# Altium schematic symbol library Detectors.SchLib: 109 symbols (part 2 of 5)
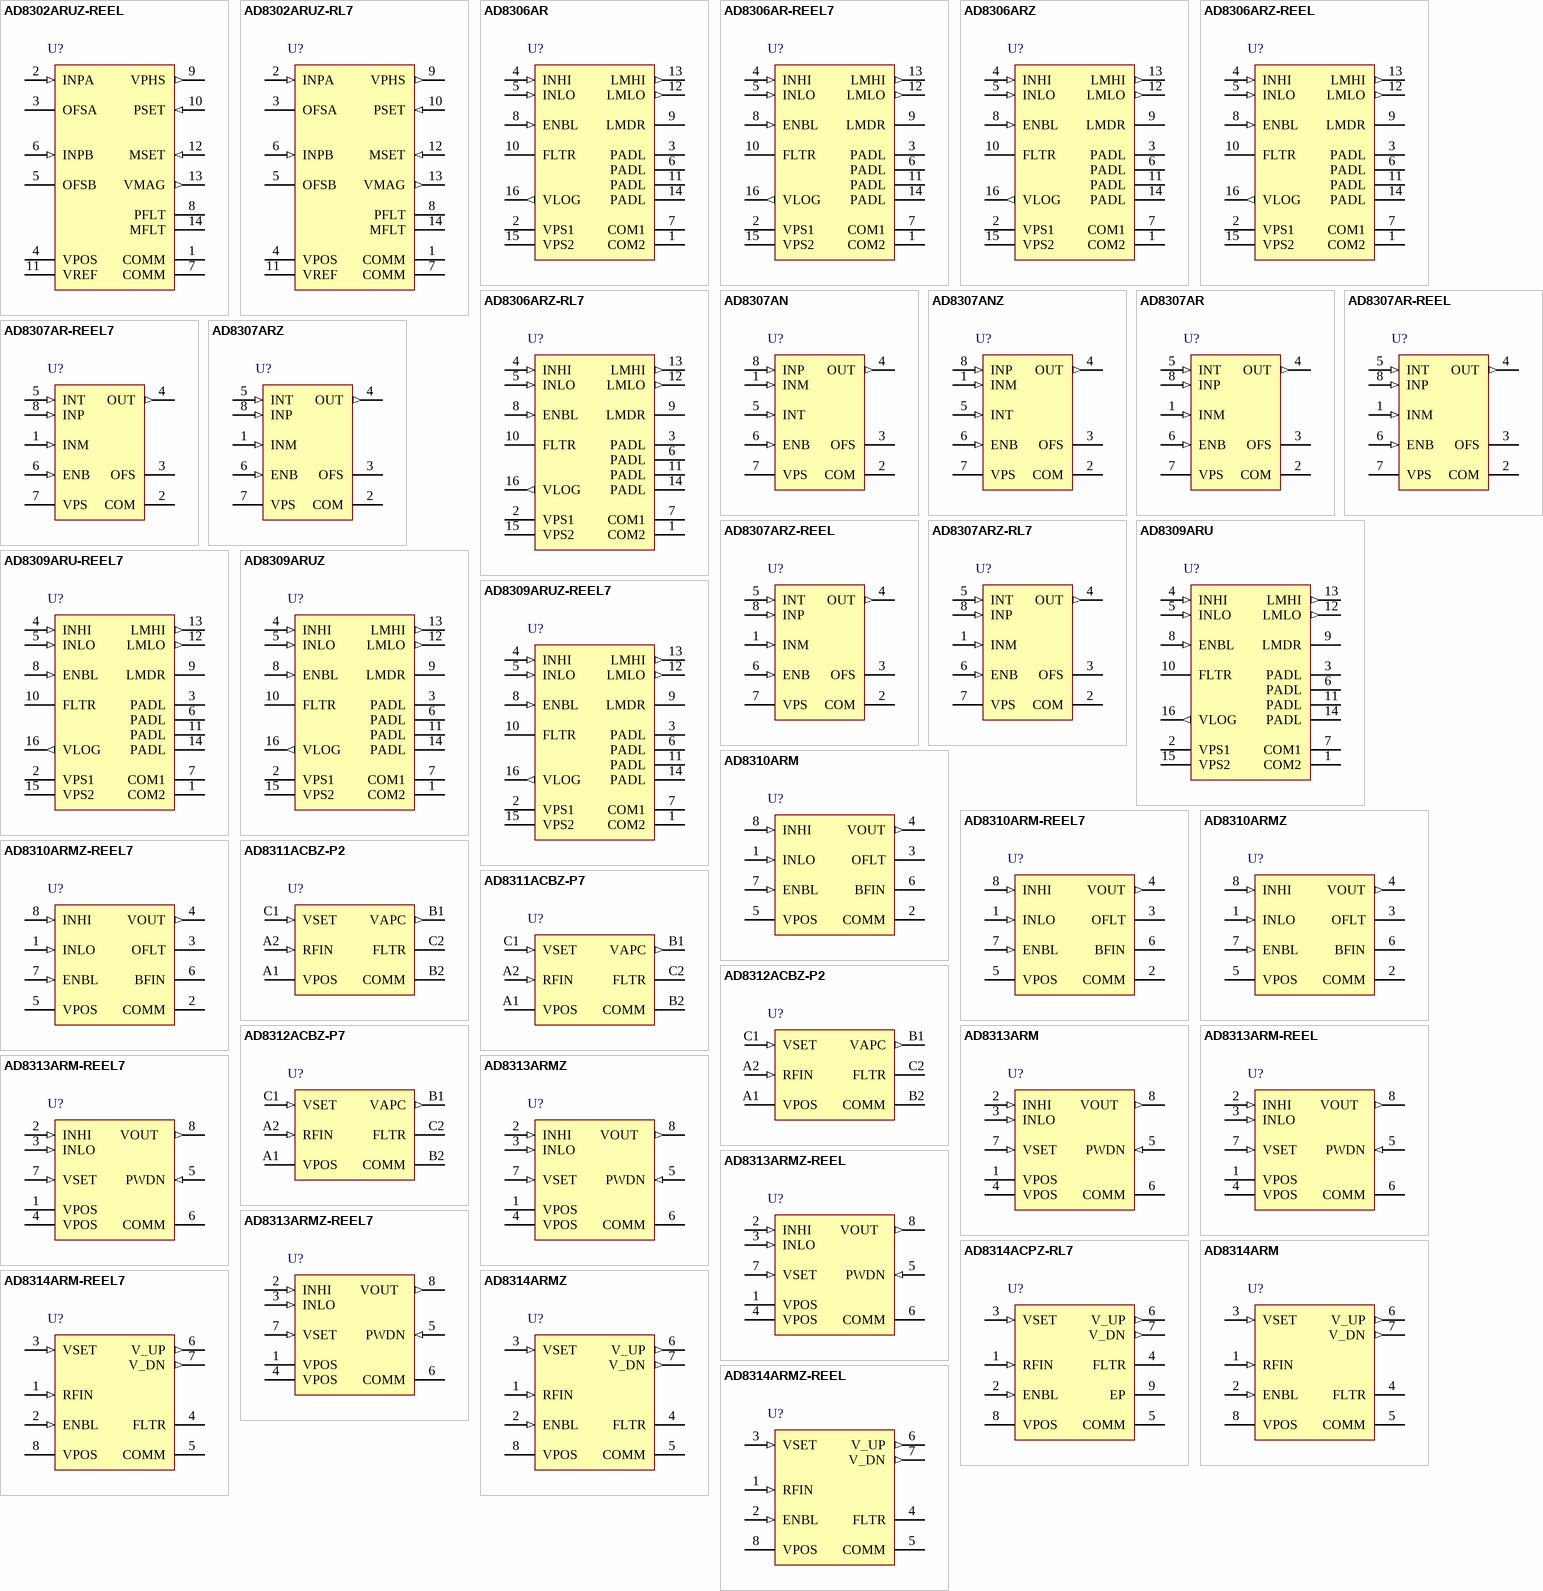
[diagram p4: symbols AD8302ARUZ-REEL to AD8314ARMZ-REEL]

## AD8306AR-REEL7
designator U?
5 MHz-400 MHz 100 dB High Precision Limiting-Logarithmic Amplifier, 73ns Response Time, R-16, 1000 Reel; Product Description: Military Specified Part Available; RF Frequency (MHz): 5 to 400; Dynamic Range (dB): 100dB; Temp Stability (dB): 1dB; Voltage Supply (V): 2.7 to 5.5; Supply Current: 16mA; DatasheetVersion: Rev.A; PackageVersion: 060606-A; PackageReference: R-16; PackageDescription: 16-Lead Standard Small Outline Package [SOIC_N]; Response Time (ns typ): 73ns; Code_JEDEC: MS-012-AC; ComponentLink1Description: Manufacturer URL; ComponentLink1URL: www.analog.com; ComponentLink2Description: Datasheet; ComponentLink2URL: http://www.analog.com/static/imported-files/data_sheets/AD8306.pdf; ComponentLink3Description: Package Specification; ComponentLink3URL: http://www.analog.com/static/imported-files/packages/PKG_PDF/SOIC_Narrow%20(R)/R_16.pdf
footprint ADI-R-16_N (SOIC, 16-Leads, Body 9.9x3.9mm, Pitch 1.27mm, IPC Medium Density)
footprint ADI-R-16_L (SOIC, 16-Leads, Body 9.9x3.9mm, Pitch 1.27mm, IPC High Density)
footprint ADI-R-16_M (SOIC, 16-Leads, Body 9.9x3.9mm, Pitch 1.27mm, IPC Low Density)
pins: 1 COM2 (power) "Special Common Pin for RSSI Output.", 2 VPS1 (power) "Supply Pin for First Five Amplifier Stages and the Main Biasing System.", 3 PADL (power) "Four Tie-Downs to the Paddle on which the IC Is Mounted; Grounded.", 4 INHI (in) "Signal Input, HI or Plus Polarity.", 5 INLO (in) "Signal Input, LO or Minus Polarity.", 6 PADL (power) "Four Tie-Downs to the Paddle on which the IC Is Mounted; Grounded.", 7 COM1 (power) "Main Common Connection.", 8 ENBL (in) "Chip Enable; Active When HI.", 9 LMDR "Limiter Drive Programming Pin.10 FLTR", 10 FLTR "RSSI Bandwidth-Reduction Pin.", 11 PADL (power) "Four Tie-Downs to the Paddle on which the IC Is Mounted; Grounded.", 12 LMLO (out) "Limiter Output, LO or Minus Polarity.", 13 LMHI (out) "Limiter Output, HI or Plus Polarity.", 14 PADL (power) "Four Tie-Downs to the Paddle on which the IC Is Mounted; Grounded.", 15 VPS2 (power) "Supply Pin for Sixth Gain Stage, Limiterand RSSI Output Stage Load Current.", 16 VLOG (out) "Logarithmic (RSSI) Output."

## AD8306ARZ
designator U?
5 MHz-400 MHz 100 dB High Precision Limiting-Logarithmic Amplifier, 73ns Response Time, R-16, Pb-Free, 48 Tube; Product Description: Military Specified Part Available; RF Frequency (MHz): 5 to 400; Dynamic Range (dB): 100dB; Temp Stability (dB): 1dB; Voltage Supply (V): 2.7 to 5.5; Supply Current: 16mA; DatasheetVersion: Rev.A; PackageVersion: 060606-A; PackageReference: R-16; PackageDescription: 16-Lead Standard Small Outline Package [SOIC_N]; Response Time (ns typ): 73ns; Code_JEDEC: MS-012-AC; ComponentLink1Description: Manufacturer URL; ComponentLink1URL: www.analog.com; ComponentLink2Description: Datasheet; ComponentLink2URL: http://www.analog.com/static/imported-files/data_sheets/AD8306.pdf; ComponentLink3Description: Package Specification; ComponentLink3URL: http://www.analog.com/static/imported-files/packages/PKG_PDF/SOIC_Narrow%20(R)/R_16.pdf
footprint ADI-R-16_N (SOIC, 16-Leads, Body 9.9x3.9mm, Pitch 1.27mm, IPC Medium Density)
footprint ADI-R-16_L (SOIC, 16-Leads, Body 9.9x3.9mm, Pitch 1.27mm, IPC High Density)
footprint ADI-R-16_M (SOIC, 16-Leads, Body 9.9x3.9mm, Pitch 1.27mm, IPC Low Density)
pins: 1 COM2 (power) "Special Common Pin for RSSI Output.", 2 VPS1 (power) "Supply Pin for First Five Amplifier Stages and the Main Biasing System.", 3 PADL (power) "Four Tie-Downs to the Paddle on which the IC Is Mounted; Grounded.", 4 INHI (in) "Signal Input, HI or Plus Polarity.", 5 INLO (in) "Signal Input, LO or Minus Polarity.", 6 PADL (power) "Four Tie-Downs to the Paddle on which the IC Is Mounted; Grounded.", 7 COM1 (power) "Main Common Connection.", 8 ENBL (in) "Chip Enable; Active When HI.", 9 LMDR "Limiter Drive Programming Pin.10 FLTR", 10 FLTR "RSSI Bandwidth-Reduction Pin.", 11 PADL (power) "Four Tie-Downs to the Paddle on which the IC Is Mounted; Grounded.", 12 LMLO (out) "Limiter Output, LO or Minus Polarity.", 13 LMHI (out) "Limiter Output, HI or Plus Polarity.", 14 PADL (power) "Four Tie-Downs to the Paddle on which the IC Is Mounted; Grounded.", 15 VPS2 (power) "Supply Pin for Sixth Gain Stage, Limiterand RSSI Output Stage Load Current.", 16 VLOG (out) "Logarithmic (RSSI) Output."

## AD8306ARZ-REEL
designator U?
5 MHz-400 MHz 100 dB High Precision Limiting-Logarithmic Amplifier, 73ns Response Time, R-16, Pb-Free, 2500 Reel; Product Description: Military Specified Part Available; RF Frequency (MHz): 5 to 400; Dynamic Range (dB): 100dB; Temp Stability (dB): 1dB; Voltage Supply (V): 2.7 to 5.5; Supply Current: 16mA; DatasheetVersion: Rev.A; PackageVersion: 060606-A; PackageReference: R-16; PackageDescription: 16-Lead Standard Small Outline Package [SOIC_N]; Response Time (ns typ): 73ns; Code_JEDEC: MS-012-AC; ComponentLink1Description: Manufacturer URL; ComponentLink1URL: www.analog.com; ComponentLink2Description: Datasheet; ComponentLink2URL: http://www.analog.com/static/imported-files/data_sheets/AD8306.pdf; ComponentLink3Description: Package Specification; ComponentLink3URL: http://www.analog.com/static/imported-files/packages/PKG_PDF/SOIC_Narrow%20(R)/R_16.pdf
footprint ADI-R-16_N (SOIC, 16-Leads, Body 9.9x3.9mm, Pitch 1.27mm, IPC Medium Density)
footprint ADI-R-16_L (SOIC, 16-Leads, Body 9.9x3.9mm, Pitch 1.27mm, IPC High Density)
footprint ADI-R-16_M (SOIC, 16-Leads, Body 9.9x3.9mm, Pitch 1.27mm, IPC Low Density)
pins: 1 COM2 (power) "Special Common Pin for RSSI Output.", 2 VPS1 (power) "Supply Pin for First Five Amplifier Stages and the Main Biasing System.", 3 PADL (power) "Four Tie-Downs to the Paddle on which the IC Is Mounted; Grounded.", 4 INHI (in) "Signal Input, HI or Plus Polarity.", 5 INLO (in) "Signal Input, LO or Minus Polarity.", 6 PADL (power) "Four Tie-Downs to the Paddle on which the IC Is Mounted; Grounded.", 7 COM1 (power) "Main Common Connection.", 8 ENBL (in) "Chip Enable; Active When HI.", 9 LMDR "Limiter Drive Programming Pin.10 FLTR", 10 FLTR "RSSI Bandwidth-Reduction Pin.", 11 PADL (power) "Four Tie-Downs to the Paddle on which the IC Is Mounted; Grounded.", 12 LMLO (out) "Limiter Output, LO or Minus Polarity.", 13 LMHI (out) "Limiter Output, HI or Plus Polarity.", 14 PADL (power) "Four Tie-Downs to the Paddle on which the IC Is Mounted; Grounded.", 15 VPS2 (power) "Supply Pin for Sixth Gain Stage, Limiterand RSSI Output Stage Load Current.", 16 VLOG (out) "Logarithmic (RSSI) Output."

## AD8306ARZ-RL7
designator U?
5 MHz-400 MHz 100 dB High Precision Limiting-Logarithmic Amplifier, 73ns Response Time, R-16, Pb-Free, 1000 Reel; Product Description: Military Specified Part Available; RF Frequency (MHz): 5 to 400; Dynamic Range (dB): 100dB; Temp Stability (dB): 1dB; Voltage Supply (V): 2.7 to 5.5; Supply Current: 16mA; DatasheetVersion: Rev.A; PackageVersion: 060606-A; PackageReference: R-16; PackageDescription: 16-Lead Standard Small Outline Package [SOIC_N]; Response Time (ns typ): 73ns; Code_JEDEC: MS-012-AC; ComponentLink1Description: Manufacturer URL; ComponentLink1URL: www.analog.com; ComponentLink2Description: Datasheet; ComponentLink2URL: http://www.analog.com/static/imported-files/data_sheets/AD8306.pdf; ComponentLink3Description: Package Specification; ComponentLink3URL: http://www.analog.com/static/imported-files/packages/PKG_PDF/SOIC_Narrow%20(R)/R_16.pdf
footprint ADI-R-16_N (SOIC, 16-Leads, Body 9.9x3.9mm, Pitch 1.27mm, IPC Medium Density)
footprint ADI-R-16_L (SOIC, 16-Leads, Body 9.9x3.9mm, Pitch 1.27mm, IPC High Density)
footprint ADI-R-16_M (SOIC, 16-Leads, Body 9.9x3.9mm, Pitch 1.27mm, IPC Low Density)
pins: 1 COM2 (power) "Special Common Pin for RSSI Output.", 2 VPS1 (power) "Supply Pin for First Five Amplifier Stages and the Main Biasing System.", 3 PADL (power) "Four Tie-Downs to the Paddle on which the IC Is Mounted; Grounded.", 4 INHI (in) "Signal Input, HI or Plus Polarity.", 5 INLO (in) "Signal Input, LO or Minus Polarity.", 6 PADL (power) "Four Tie-Downs to the Paddle on which the IC Is Mounted; Grounded.", 7 COM1 (power) "Main Common Connection.", 8 ENBL (in) "Chip Enable; Active When HI.", 9 LMDR "Limiter Drive Programming Pin.10 FLTR", 10 FLTR "RSSI Bandwidth-Reduction Pin.", 11 PADL (power) "Four Tie-Downs to the Paddle on which the IC Is Mounted; Grounded.", 12 LMLO (out) "Limiter Output, LO or Minus Polarity.", 13 LMHI (out) "Limiter Output, HI or Plus Polarity.", 14 PADL (power) "Four Tie-Downs to the Paddle on which the IC Is Mounted; Grounded.", 15 VPS2 (power) "Supply Pin for Sixth Gain Stage, Limiterand RSSI Output Stage Load Current.", 16 VLOG (out) "Logarithmic (RSSI) Output."

## AD8307AN
designator U?
Low Cost, DC to 500 MHz, 92 dB Logarithmic Amplifier, 400ns Response Time, N-8, 50 Tube; Product Description: High Dynamic Range; Dynamic Range (dB): 92dB; Temp Stability (dB): 1dB; Voltage Supply (V): 2.7 to 5.5; Supply Current: 8mA; DatasheetVersion: Rev. D; PackageVersion: 070606-A; PackageReference: N-8; PackageDescription: 8-Lead Plastic Dual In-Line Package [PDIP]; RF Frequency (MHz): dc to 500; Response Time (ns typ): 400ns; Code_JEDEC: MS-001; ComponentLink1Description: Manufacturer URL; ComponentLink1URL: www.analog.com; ComponentLink2Description: Datasheet; ComponentLink2URL: http://www.analog.com/static/imported-files/data_sheets/AD8307.pdf; ComponentLink3Description: Package Specification; ComponentLink3URL: http://www.analog.com/static/imported-files/packages/PKG_PDF/PDIP(N)/N_8.pdf
footprint ADI-N-8 (DIP, 8-Leads, Row Spacing 7.62mm, Pitch 2.54mm, Body 9.6x6.6mm)
pins: 1 INM (in) "Signal Input Minus Polarity. Normally at VPOS/2.", 2 COM (power) "Common Pin (Usually Grounded).", 3 OFS "Offset Adjustment. External capacitor connection.", 4 OUT (out) "Logarithmic (RSSI) Output Voltage. ROUT = 12.5 kohm.", 5 INT (in) "Intercept Adjustment, ±3 dB. (See the Slope and Intercept Adjustments section.)", 6 ENB (in) "CMOS-Compatible Chip Enable. Active when high.", 7 VPS (power) "Positive Supply: 2.7 V to 5.5 V.", 8 INP (in) "Signal Input Plus Polarity. Normally at VPOS/2. Due to the symmetrical nature of the response, there is no special  significance to the sign of the two input pins. DC resistance from INP to INM = 1.1 kohm."

## AD8307ANZ
designator U?
Low Cost, DC to 500 MHz, 92 dB Logarithmic Amplifier, 400ns Response Time, N-8, Pb-Free, 50 Tube; Product Description: High Dynamic Range; Dynamic Range (dB): 92dB; Temp Stability (dB): 1dB; Voltage Supply (V): 2.7 to 5.5; Supply Current: 8mA; DatasheetVersion: Rev. D; PackageVersion: 070606-A; PackageReference: N-8; PackageDescription: 8-Lead Plastic Dual In-Line Package [PDIP]; RF Frequency (MHz): dc to 500; Response Time (ns typ): 400ns; Code_JEDEC: MS-001; ComponentLink1Description: Manufacturer URL; ComponentLink1URL: www.analog.com; ComponentLink2Description: Datasheet; ComponentLink2URL: http://www.analog.com/static/imported-files/data_sheets/AD8307.pdf; ComponentLink3Description: Package Specification; ComponentLink3URL: http://www.analog.com/static/imported-files/packages/PKG_PDF/PDIP(N)/N_8.pdf
footprint ADI-N-8 (DIP, 8-Leads, Row Spacing 7.62mm, Pitch 2.54mm, Body 9.6x6.6mm)
pins: 1 INM (in) "Signal Input Minus Polarity. Normally at VPOS/2.", 2 COM (power) "Common Pin (Usually Grounded).", 3 OFS "Offset Adjustment. External capacitor connection.", 4 OUT (out) "Logarithmic (RSSI) Output Voltage. ROUT = 12.5 kohm.", 5 INT (in) "Intercept Adjustment, ±3 dB. (See the Slope and Intercept Adjustments section.)", 6 ENB (in) "CMOS-Compatible Chip Enable. Active when high.", 7 VPS (power) "Positive Supply: 2.7 V to 5.5 V.", 8 INP (in) "Signal Input Plus Polarity. Normally at VPOS/2. Due to the symmetrical nature of the response, there is no special  significance to the sign of the two input pins. DC resistance from INP to INM = 1.1 kohm."

## AD8307AR
designator U?
Low Cost, DC to 500 MHz, 92 dB Logarithmic Amplifier, 400ns Response Time, R-8, 98 Tube; Product Description: High Dynamic Range; Dynamic Range (dB): 92dB; Temp Stability (dB): 1dB; Voltage Supply (V): 2.7 to 5.5; Supply Current: 8mA; DatasheetVersion: Rev. D; PackageVersion: 060506-A; PackageReference: R-8; PackageDescription: 8-Lead Standard Small Outline Package [SOIC_N]; RF Frequency (MHz): dc to 500; Response Time (ns typ): 400ns; Code_JEDEC: MS-012-AA; ComponentLink1Description: Manufacturer URL; ComponentLink1URL: www.analog.com; ComponentLink2Description: Datasheet; ComponentLink2URL: http://www.analog.com/static/imported-files/data_sheets/AD8307.pdf; ComponentLink3Description: Package Specification; ComponentLink3URL: http://www.analog.com/static/imported-files/packages/PKG_PDF/SOIC_Narrow%20(R)/R_8.pdf
footprint ADI-R-8_N (SOIC, 8-Leads, Body 4.9x3.9mm, Pitch 1.27mm, IPC Medium Density)
footprint ADI-R-8_L (SOIC, 8-Leads, Body 4.9x3.9mm, Pitch 1.27mm, IPC High Density)
footprint ADI-R-8_M (SOIC, 8-Leads, Body 4.9x3.9mm, Pitch 1.27mm, IPC Low Density)
pins: 1 INM (in) "Signal Input Minus Polarity. Normally at VPOS/2.", 2 COM (power) "Common Pin (Usually Grounded).", 3 OFS "Offset Adjustment. External capacitor connection.", 4 OUT (out) "Logarithmic (RSSI) Output Voltage. ROUT = 12.5 kohm.", 5 INT (in) "Intercept Adjustment, ±3 dB. (See the Slope and Intercept Adjustments section.)", 6 ENB (in) "CMOS-Compatible Chip Enable. Active when high.", 7 VPS (power) "Positive Supply: 2.7 V to 5.5 V.", 8 INP (in) "Signal Input Plus Polarity. Normally at VPOS/2. Due to the symmetrical nature of the response, there is no special significance to the sign of the two input pins. DC resistance from INP to INM = 1.1 kohm."

## AD8307AR-REEL
designator U?
Low Cost, DC to 500 MHz, 92 dB Logarithmic Amplifier, 400ns Response Time, R-8, 2500 Reel; Product Description: High Dynamic Range; Dynamic Range (dB): 92dB; Temp Stability (dB): 1dB; Voltage Supply (V): 2.7 to 5.5; Supply Current: 8mA; DatasheetVersion: Rev. D; PackageVersion: 060506-A; PackageReference: R-8; PackageDescription: 8-Lead Standard Small Outline Package [SOIC_N]; RF Frequency (MHz): dc to 500; Response Time (ns typ): 400ns; Code_JEDEC: MS-012-AA; ComponentLink1Description: Manufacturer URL; ComponentLink1URL: www.analog.com; ComponentLink2Description: Datasheet; ComponentLink2URL: http://www.analog.com/static/imported-files/data_sheets/AD8307.pdf; ComponentLink3Description: Package Specification; ComponentLink3URL: http://www.analog.com/static/imported-files/packages/PKG_PDF/SOIC_Narrow%20(R)/R_8.pdf
footprint ADI-R-8_N (SOIC, 8-Leads, Body 4.9x3.9mm, Pitch 1.27mm, IPC Medium Density)
footprint ADI-R-8_L (SOIC, 8-Leads, Body 4.9x3.9mm, Pitch 1.27mm, IPC High Density)
footprint ADI-R-8_M (SOIC, 8-Leads, Body 4.9x3.9mm, Pitch 1.27mm, IPC Low Density)
pins: 1 INM (in) "Signal Input Minus Polarity. Normally at VPOS/2.", 2 COM (power) "Common Pin (Usually Grounded).", 3 OFS "Offset Adjustment. External capacitor connection.", 4 OUT (out) "Logarithmic (RSSI) Output Voltage. ROUT = 12.5 kohm.", 5 INT (in) "Intercept Adjustment, ±3 dB. (See the Slope and Intercept Adjustments section.)", 6 ENB (in) "CMOS-Compatible Chip Enable. Active when high.", 7 VPS (power) "Positive Supply: 2.7 V to 5.5 V.", 8 INP (in) "Signal Input Plus Polarity. Normally at VPOS/2. Due to the symmetrical nature of the response, there is no special significance to the sign of the two input pins. DC resistance from INP to INM = 1.1 kohm."

## AD8307AR-REEL7
designator U?
Low Cost, DC to 500 MHz, 92 dB Logarithmic Amplifier, 400ns Response Time, R-8, 750 Reel; Product Description: High Dynamic Range; Dynamic Range (dB): 92dB; Temp Stability (dB): 1dB; Voltage Supply (V): 2.7 to 5.5; Supply Current: 8mA; DatasheetVersion: Rev. D; PackageVersion: 060506-A; PackageReference: R-8; PackageDescription: 8-Lead Standard Small Outline Package [SOIC_N]; RF Frequency (MHz): dc to 500; Response Time (ns typ): 400ns; Code_JEDEC: MS-012-AA; ComponentLink1Description: Manufacturer URL; ComponentLink1URL: www.analog.com; ComponentLink2Description: Datasheet; ComponentLink2URL: http://www.analog.com/static/imported-files/data_sheets/AD8307.pdf; ComponentLink3Description: Package Specification; ComponentLink3URL: http://www.analog.com/static/imported-files/packages/PKG_PDF/SOIC_Narrow%20(R)/R_8.pdf
footprint ADI-R-8_N (SOIC, 8-Leads, Body 4.9x3.9mm, Pitch 1.27mm, IPC Medium Density)
footprint ADI-R-8_L (SOIC, 8-Leads, Body 4.9x3.9mm, Pitch 1.27mm, IPC High Density)
footprint ADI-R-8_M (SOIC, 8-Leads, Body 4.9x3.9mm, Pitch 1.27mm, IPC Low Density)
pins: 1 INM (in) "Signal Input Minus Polarity. Normally at VPOS/2.", 2 COM (power) "Common Pin (Usually Grounded).", 3 OFS "Offset Adjustment. External capacitor connection.", 4 OUT (out) "Logarithmic (RSSI) Output Voltage. ROUT = 12.5 kohm.", 5 INT (in) "Intercept Adjustment, ±3 dB. (See the Slope and Intercept Adjustments section.)", 6 ENB (in) "CMOS-Compatible Chip Enable. Active when high.", 7 VPS (power) "Positive Supply: 2.7 V to 5.5 V.", 8 INP (in) "Signal Input Plus Polarity. Normally at VPOS/2. Due to the symmetrical nature of the response, there is no special significance to the sign of the two input pins. DC resistance from INP to INM = 1.1 kohm."

## AD8307ARZ
designator U?
Low Cost, DC to 500 MHz, 92 dB Logarithmic Amplifier, 400ns Response Time, R-8, Pb-Free, 98 Tube; Product Description: High Dynamic Range; Dynamic Range (dB): 92dB; Temp Stability (dB): 1dB; Voltage Supply (V): 2.7 to 5.5; Supply Current: 8mA; DatasheetVersion: Rev. D; PackageVersion: 060506-A; PackageReference: R-8; PackageDescription: 8-Lead Standard Small Outline Package [SOIC_N]; RF Frequency (MHz): dc to 500; Response Time (ns typ): 400ns; Code_JEDEC: MS-012-AA; ComponentLink1Description: Manufacturer URL; ComponentLink1URL: www.analog.com; ComponentLink2Description: Datasheet; ComponentLink2URL: http://www.analog.com/static/imported-files/data_sheets/AD8307.pdf; ComponentLink3Description: Package Specification; ComponentLink3URL: http://www.analog.com/static/imported-files/packages/PKG_PDF/SOIC_Narrow%20(R)/R_8.pdf
footprint ADI-R-8_N (SOIC, 8-Leads, Body 4.9x3.9mm, Pitch 1.27mm, IPC Medium Density)
footprint ADI-R-8_L (SOIC, 8-Leads, Body 4.9x3.9mm, Pitch 1.27mm, IPC High Density)
footprint ADI-R-8_M (SOIC, 8-Leads, Body 4.9x3.9mm, Pitch 1.27mm, IPC Low Density)
pins: 1 INM (in) "Signal Input Minus Polarity. Normally at VPOS/2.", 2 COM (power) "Common Pin (Usually Grounded).", 3 OFS "Offset Adjustment. External capacitor connection.", 4 OUT (out) "Logarithmic (RSSI) Output Voltage. ROUT = 12.5 kohm.", 5 INT (in) "Intercept Adjustment, ±3 dB. (See the Slope and Intercept Adjustments section.)", 6 ENB (in) "CMOS-Compatible Chip Enable. Active when high.", 7 VPS (power) "Positive Supply: 2.7 V to 5.5 V.", 8 INP (in) "Signal Input Plus Polarity. Normally at VPOS/2. Due to the symmetrical nature of the response, there is no special significance to the sign of the two input pins. DC resistance from INP to INM = 1.1 kohm."

## AD8307ARZ-REEL
designator U?
Low Cost, DC to 500 MHz, 92 dB Logarithmic Amplifier, 400ns Response Time, R-8, Pb-Free, 2500 Reel; Product Description: High Dynamic Range; Dynamic Range (dB): 92dB; Temp Stability (dB): 1dB; Voltage Supply (V): 2.7 to 5.5; Supply Current: 8mA; DatasheetVersion: Rev. D; PackageVersion: 060506-A; PackageReference: R-8; PackageDescription: 8-Lead Standard Small Outline Package [SOIC_N]; RF Frequency (MHz): dc to 500; Response Time (ns typ): 400ns; Code_JEDEC: MS-012-AA; ComponentLink1Description: Manufacturer URL; ComponentLink1URL: www.analog.com; ComponentLink2Description: Datasheet; ComponentLink2URL: http://www.analog.com/static/imported-files/data_sheets/AD8307.pdf; ComponentLink3Description: Package Specification; ComponentLink3URL: http://www.analog.com/static/imported-files/packages/PKG_PDF/SOIC_Narrow%20(R)/R_8.pdf
footprint ADI-R-8_N (SOIC, 8-Leads, Body 4.9x3.9mm, Pitch 1.27mm, IPC Medium Density)
footprint ADI-R-8_L (SOIC, 8-Leads, Body 4.9x3.9mm, Pitch 1.27mm, IPC High Density)
footprint ADI-R-8_M (SOIC, 8-Leads, Body 4.9x3.9mm, Pitch 1.27mm, IPC Low Density)
pins: 1 INM (in) "Signal Input Minus Polarity. Normally at VPOS/2.", 2 COM (power) "Common Pin (Usually Grounded).", 3 OFS "Offset Adjustment. External capacitor connection.", 4 OUT (out) "Logarithmic (RSSI) Output Voltage. ROUT = 12.5 kohm.", 5 INT (in) "Intercept Adjustment, ±3 dB. (See the Slope and Intercept Adjustments section.)", 6 ENB (in) "CMOS-Compatible Chip Enable. Active when high.", 7 VPS (power) "Positive Supply: 2.7 V to 5.5 V.", 8 INP (in) "Signal Input Plus Polarity. Normally at VPOS/2. Due to the symmetrical nature of the response, there is no special significance to the sign of the two input pins. DC resistance from INP to INM = 1.1 kohm."

## AD8307ARZ-RL7
designator U?
Low Cost, DC to 500 MHz, 92 dB Logarithmic Amplifier, 400ns Response Time, R-8, Pb-Free, 750 	Reel; Product Description: High Dynamic Range; Dynamic Range (dB): 92dB; Temp Stability (dB): 1dB; Voltage Supply (V): 2.7 to 5.5; Supply Current: 8mA; DatasheetVersion: Rev. D; PackageVersion: 060506-A; PackageReference: R-8; PackageDescription: 8-Lead Standard Small Outline Package [SOIC_N]; RF Frequency (MHz): dc to 500; Response Time (ns typ): 400ns; Code_JEDEC: MS-012-AA; ComponentLink1Description: Manufacturer URL; ComponentLink1URL: www.analog.com; ComponentLink2Description: Datasheet; ComponentLink2URL: http://www.analog.com/static/imported-files/data_sheets/AD8307.pdf; ComponentLink3Description: Package Specification; ComponentLink3URL: http://www.analog.com/static/imported-files/packages/PKG_PDF/SOIC_Narrow%20(R)/R_8.pdf
footprint ADI-R-8_N (SOIC, 8-Leads, Body 4.9x3.9mm, Pitch 1.27mm, IPC Medium Density)
footprint ADI-R-8_L (SOIC, 8-Leads, Body 4.9x3.9mm, Pitch 1.27mm, IPC High Density)
footprint ADI-R-8_M (SOIC, 8-Leads, Body 4.9x3.9mm, Pitch 1.27mm, IPC Low Density)
pins: 1 INM (in) "Signal Input Minus Polarity. Normally at VPOS/2.", 2 COM (power) "Common Pin (Usually Grounded).", 3 OFS "Offset Adjustment. External capacitor connection.", 4 OUT (out) "Logarithmic (RSSI) Output Voltage. ROUT = 12.5 kohm.", 5 INT (in) "Intercept Adjustment, ±3 dB. (See the Slope and Intercept Adjustments section.)", 6 ENB (in) "CMOS-Compatible Chip Enable. Active when high.", 7 VPS (power) "Positive Supply: 2.7 V to 5.5 V.", 8 INP (in) "Signal Input Plus Polarity. Normally at VPOS/2. Due to the symmetrical nature of the response, there is no special significance to the sign of the two input pins. DC resistance from INP to INM = 1.1 kohm."

## AD8309ARU
designator U?
5 MHz-500 MHz 100 dB Demodulating Logarithmic Amplifier with Limiter Output, 67ns Response Time, RU-16, 96 Tube; RF Frequency (MHz): 5 to 500; Dynamic Range (dB): 100dB; Temp Stability (dB): 1dB; Voltage Supply (V): 2.7 to 6.5; Supply Current: 16mA; DatasheetVersion: Rev. B; PackageVersion: Nov-2002; PackageReference: RU-16; PackageDescription: 16-Lead Thin Shrink Small Outline Package [TSSOP]; Product Description: Limiter Output; Response Time (ns typ): 67ns; Code_JEDEC: MO-153AB; ComponentLink1Description: Manufacturer URL; ComponentLink1URL: www.analog.com; ComponentLink2Description: Datasheet; ComponentLink2URL: http://www.analog.com/static/imported-files/data_sheets/AD8309.pdf; ComponentLink3Description: Package Specification; ComponentLink3URL: http://www.analog.com/static/imported-files/packages/36244347913743854010197452789RU16.pdf
footprint ADI-RU-16_N (TSOP, 16-Leads, Body 5x4.4mm, Pitch 0.65mm, IPC Medium Density)
footprint ADI-RU-16_L (TSOP, 16-Leads, Body 5x4.4mm, Pitch 0.65mm, IPC High Density)
footprint ADI-RU-16_M (TSOP, 16-Leads, Body 5x4.4mm, Pitch 0.65mm, IPC Low Density)
pins: 1 COM2 (power) "Special Common Pin for RSSI Output.", 2 VPS1 (power) "Supply Pin for First Five Amplifier Stages", 3 PADL (power) "Four Tie-Downs to the Paddle on Which the IC Is Mounted; Grounded.", 4 INHI (in) "Signal Input, HI or Plus Polarity.", 5 INLO (in) "Signal Input, LO or Minus Polarity.", 6 PADL (power) "Four Tie-Downs to the Paddle on Which the IC Is Mounted; Grounded.", 7 COM1 (power) "Main Common Connection.", 8 ENBL (in) "Chip Enable; Active When HI.", 9 LMDR "Limiter Drive Programming Pin.", 10 FLTR "RSSI Bandwidth-Reduction Pin.", 11 PADL (power) "Four Tie-Downs to the Paddle on Which the IC Is Mounted; Grounded.", 12 LMLO (out) "Limiter Output, LO or Minus Polarity.", 13 LMHI (out) "Limiter Output, HI or Plus Polarity.", 14 PADL (power) "Four Tie-Downs to the Paddle on Which the IC Is Mounted; Grounded.", 15 VPS2 (power) "Supply Pin for Sixth Gain Stage, Limiter  and RSSI Output Stage Load Current.", 16 VLOG (out) "Logarithmic (RSSI) Output"

## AD8309ARU-REEL7
designator U?
5 MHz-500 MHz 100 dB Demodulating Logarithmic Amplifier with Limiter Output, 67ns Response Time, RU-16, 1000 Reel; RF Frequency (MHz): 5 to 500; Dynamic Range (dB): 100dB; Temp Stability (dB): 1dB; Voltage Supply (V): 2.7 to 6.5; Supply Current: 16mA; DatasheetVersion: Rev. B; PackageVersion: Nov-2002; PackageReference: RU-16; PackageDescription: 16-Lead Thin Shrink Small Outline Package [TSSOP]; Product Description: Limiter Output; Response Time (ns typ): 67ns; Code_JEDEC: MO-153AB; ComponentLink1Description: Manufacturer URL; ComponentLink1URL: www.analog.com; ComponentLink2Description: Datasheet; ComponentLink2URL: http://www.analog.com/static/imported-files/data_sheets/AD8309.pdf; ComponentLink3Description: Package Specification; ComponentLink3URL: http://www.analog.com/static/imported-files/packages/36244347913743854010197452789RU16.pdf
footprint ADI-RU-16_N (TSOP, 16-Leads, Body 5x4.4mm, Pitch 0.65mm, IPC Medium Density)
footprint ADI-RU-16_L (TSOP, 16-Leads, Body 5x4.4mm, Pitch 0.65mm, IPC High Density)
footprint ADI-RU-16_M (TSOP, 16-Leads, Body 5x4.4mm, Pitch 0.65mm, IPC Low Density)
pins: 1 COM2 (power) "Special Common Pin for RSSI Output.", 2 VPS1 (power) "Supply Pin for First Five Amplifier Stages", 3 PADL (power) "Four Tie-Downs to the Paddle on Which the IC Is Mounted; Grounded.", 4 INHI (in) "Signal Input, HI or Plus Polarity.", 5 INLO (in) "Signal Input, LO or Minus Polarity.", 6 PADL (power) "Four Tie-Downs to the Paddle on Which the IC Is Mounted; Grounded.", 7 COM1 (power) "Main Common Connection.", 8 ENBL (in) "Chip Enable; Active When HI.", 9 LMDR "Limiter Drive Programming Pin.", 10 FLTR "RSSI Bandwidth-Reduction Pin.", 11 PADL (power) "Four Tie-Downs to the Paddle on Which the IC Is Mounted; Grounded.", 12 LMLO (out) "Limiter Output, LO or Minus Polarity.", 13 LMHI (out) "Limiter Output, HI or Plus Polarity.", 14 PADL (power) "Four Tie-Downs to the Paddle on Which the IC Is Mounted; Grounded.", 15 VPS2 (power) "Supply Pin for Sixth Gain Stage, Limiter  and RSSI Output Stage Load Current.", 16 VLOG (out) "Logarithmic (RSSI) Output"

## AD8309ARUZ
designator U?
5 MHz-500 MHz 100 dB Demodulating Logarithmic Amplifier with Limiter Output, 67ns Response Time, RU-16, Pb-Free, 96 Tube; RF Frequency (MHz): 5 to 500; Dynamic Range (dB): 100dB; Temp Stability (dB): 1dB; Voltage Supply (V): 2.7 to 6.5; Supply Current: 16mA; DatasheetVersion: Rev. B; PackageVersion: Nov-2002; PackageReference: RU-16; PackageDescription: 16-Lead Thin Shrink Small Outline Package [TSSOP]; Product Description: Limiter Output; Response Time (ns typ): 67ns; Code_JEDEC: MO-153AB; ComponentLink1Description: Manufacturer URL; ComponentLink1URL: www.analog.com; ComponentLink2Description: Datasheet; ComponentLink2URL: http://www.analog.com/static/imported-files/data_sheets/AD8309.pdf; ComponentLink3Description: Package Specification; ComponentLink3URL: http://www.analog.com/static/imported-files/packages/36244347913743854010197452789RU16.pdf
footprint ADI-RU-16_N (TSOP, 16-Leads, Body 5x4.4mm, Pitch 0.65mm, IPC Medium Density)
footprint ADI-RU-16_L (TSOP, 16-Leads, Body 5x4.4mm, Pitch 0.65mm, IPC High Density)
footprint ADI-RU-16_M (TSOP, 16-Leads, Body 5x4.4mm, Pitch 0.65mm, IPC Low Density)
pins: 1 COM2 (power) "Special Common Pin for RSSI Output.", 2 VPS1 (power) "Supply Pin for First Five Amplifier Stages", 3 PADL (power) "Four Tie-Downs to the Paddle on Which the IC Is Mounted; Grounded.", 4 INHI (in) "Signal Input, HI or Plus Polarity.", 5 INLO (in) "Signal Input, LO or Minus Polarity.", 6 PADL (power) "Four Tie-Downs to the Paddle on Which the IC Is Mounted; Grounded.", 7 COM1 (power) "Main Common Connection.", 8 ENBL (in) "Chip Enable; Active When HI.", 9 LMDR "Limiter Drive Programming Pin.", 10 FLTR "RSSI Bandwidth-Reduction Pin.", 11 PADL (power) "Four Tie-Downs to the Paddle on Which the IC Is Mounted; Grounded.", 12 LMLO (out) "Limiter Output, LO or Minus Polarity.", 13 LMHI (out) "Limiter Output, HI or Plus Polarity.", 14 PADL (power) "Four Tie-Downs to the Paddle on Which the IC Is Mounted; Grounded.", 15 VPS2 (power) "Supply Pin for Sixth Gain Stage, Limiter  and RSSI Output Stage Load Current.", 16 VLOG (out) "Logarithmic (RSSI) Output"

## AD8309ARUZ-REEL7
designator U?
5 MHz-500 MHz 100 dB Demodulating Logarithmic Amplifier with Limiter Output, 67ns Response Time, RU-16, Pb-Free, 1000 Reel; RF Frequency (MHz): 5 to 500; Dynamic Range (dB): 100dB; Temp Stability (dB): 1dB; Voltage Supply (V): 2.7 to 6.5; Supply Current: 16mA; DatasheetVersion: Rev. B; PackageVersion: Nov-2002; PackageReference: RU-16; PackageDescription: 16-Lead Thin Shrink Small Outline Package [TSSOP]; Product Description: Limiter Output; Response Time (ns typ): 67ns; Code_JEDEC: MO-153AB; ComponentLink1Description: Manufacturer URL; ComponentLink1URL: www.analog.com; ComponentLink2Description: Datasheet; ComponentLink2URL: http://www.analog.com/static/imported-files/data_sheets/AD8309.pdf; ComponentLink3Description: Package Specification; ComponentLink3URL: http://www.analog.com/static/imported-files/packages/36244347913743854010197452789RU16.pdf
footprint ADI-RU-16_N (TSOP, 16-Leads, Body 5x4.4mm, Pitch 0.65mm, IPC Medium Density)
footprint ADI-RU-16_L (TSOP, 16-Leads, Body 5x4.4mm, Pitch 0.65mm, IPC High Density)
footprint ADI-RU-16_M (TSOP, 16-Leads, Body 5x4.4mm, Pitch 0.65mm, IPC Low Density)
pins: 1 COM2 (power) "Special Common Pin for RSSI Output.", 2 VPS1 (power) "Supply Pin for First Five Amplifier Stages", 3 PADL (power) "Four Tie-Downs to the Paddle on Which the IC Is Mounted; Grounded.", 4 INHI (in) "Signal Input, HI or Plus Polarity.", 5 INLO (in) "Signal Input, LO or Minus Polarity.", 6 PADL (power) "Four Tie-Downs to the Paddle on Which the IC Is Mounted; Grounded.", 7 COM1 (power) "Main Common Connection.", 8 ENBL (in) "Chip Enable; Active When HI.", 9 LMDR "Limiter Drive Programming Pin.", 10 FLTR "RSSI Bandwidth-Reduction Pin.", 11 PADL (power) "Four Tie-Downs to the Paddle on Which the IC Is Mounted; Grounded.", 12 LMLO (out) "Limiter Output, LO or Minus Polarity.", 13 LMHI (out) "Limiter Output, HI or Plus Polarity.", 14 PADL (power) "Four Tie-Downs to the Paddle on Which the IC Is Mounted; Grounded.", 15 VPS2 (power) "Supply Pin for Sixth Gain Stage, Limiter  and RSSI Output Stage Load Current.", 16 VLOG (out) "Logarithmic (RSSI) Output"

## AD8310ARM
designator U?
Fast, Voltage-Out, DC to 440 MHz, 95 dB Logarithmic Amplifier, 15ns Response Time, RM-8, 50 Tube; Product Description: High Dynamic Range; Dynamic Range (dB): 100dB; Temp Stability (dB): 1dB; Voltage Supply (V): 2.7 to 5.5; Supply Current: 8mA; DatasheetVersion: Rev. F; PackageVersion: Aug-2005; PackageReference: RM-8; PackageDescription: 8-Lead Mini Small Outline Package [MSOP]; RF Frequency (MHz): dc to 440; Response Time (ns typ): 15ns; Code_JEDEC: MO-187-AA; ComponentLink1Description: Manufacturer URL; ComponentLink1URL: www.analog.com; ComponentLink2Description: Datasheet; ComponentLink2URL: http://www.analog.com/static/imported-files/data_sheets/AD8310.pdf; ComponentLink3Description: Package Specification; ComponentLink3URL: http://www.analog.com/static/imported-files/packages/PKG_PDF/MSOP%28RM%29/RM_8.pdf
footprint ADI-RM-8_N (TSOP, 8-Leads, Body 3x3mm, Pitch 0.65mm, IPC Medium Density)
footprint ADI-RM-8_L (TSOP, 8-Leads, Body 3x3mm, Pitch 0.65mm, IPC High Density)
footprint ADI-RM-8_M (TSOP, 8-Leads, Body 3x3mm, Pitch 0.65mm, IPC Low Density)
pins: 1 INLO (in) "One of Two Balanced Inputs. Biased roughly to VPOS/2.", 2 COMM (power) "Common Pin. Usually grounded", 3 OFLT "Offset Filter Access. Nominally at about 1.75 V.", 4 VOUT (out) "Low Impedance Output Voltage. Carries a 25 mA maximum load.", 5 VPOS (power) "Positive Supply. 2.7 V to 5.5 V at 8 mA quiescent current.", 6 BFIN "Buffer Input. Used to lower postdetection bandwidth.", 7 ENBL (in) "CMOS Compatible Chip Enable. Active when high.", 8 INHI (in) "Second of Two Balanced Inputs. Biased roughly to VPOS/2."

## AD8310ARM-REEL7
designator U?
Fast, Voltage-Out, DC to 440 MHz, 95 dB Logarithmic Amplifier, 15ns Response Time, RM-8, 1000 Reel; Product Description: High Dynamic Range; Dynamic Range (dB): 100dB; Temp Stability (dB): 1dB; Voltage Supply (V): 2.7 to 5.5; Supply Current: 8mA; DatasheetVersion: Rev. F; PackageVersion: Aug-2005; PackageReference: RM-8; PackageDescription: 8-Lead Mini Small Outline Package [MSOP]; RF Frequency (MHz): dc to 440; Response Time (ns typ): 15ns; Code_JEDEC: MO-187-AA; ComponentLink1Description: Manufacturer URL; ComponentLink1URL: www.analog.com; ComponentLink2Description: Datasheet; ComponentLink2URL: http://www.analog.com/static/imported-files/data_sheets/AD8310.pdf; ComponentLink3Description: Package Specification; ComponentLink3URL: http://www.analog.com/static/imported-files/packages/PKG_PDF/MSOP%28RM%29/RM_8.pdf
footprint ADI-RM-8_N (TSOP, 8-Leads, Body 3x3mm, Pitch 0.65mm, IPC Medium Density)
footprint ADI-RM-8_L (TSOP, 8-Leads, Body 3x3mm, Pitch 0.65mm, IPC High Density)
footprint ADI-RM-8_M (TSOP, 8-Leads, Body 3x3mm, Pitch 0.65mm, IPC Low Density)
pins: 1 INLO (in) "One of Two Balanced Inputs. Biased roughly to VPOS/2.", 2 COMM (power) "Common Pin. Usually grounded", 3 OFLT "Offset Filter Access. Nominally at about 1.75 V.", 4 VOUT (out) "Low Impedance Output Voltage. Carries a 25 mA maximum load.", 5 VPOS (power) "Positive Supply. 2.7 V to 5.5 V at 8 mA quiescent current.", 6 BFIN "Buffer Input. Used to lower postdetection bandwidth.", 7 ENBL (in) "CMOS Compatible Chip Enable. Active when high.", 8 INHI (in) "Second of Two Balanced Inputs. Biased roughly to VPOS/2."

## AD8310ARMZ
designator U?
Fast, Voltage-Out, DC to 440 MHz, 95 dB Logarithmic Amplifier, 15ns Response Time, RM-8, Pb-Free, 50 Tube; Product Description: High Dynamic Range; Dynamic Range (dB): 100dB; Temp Stability (dB): 1dB; Voltage Supply (V): 2.7 to 5.5; Supply Current: 8mA; DatasheetVersion: Rev. F; PackageVersion: Aug-2005; PackageReference: RM-8; PackageDescription: 8-Lead Mini Small Outline Package [MSOP]; RF Frequency (MHz): dc to 440; Response Time (ns typ): 15ns; Code_JEDEC: MO-187-AA; ComponentLink1Description: Manufacturer URL; ComponentLink1URL: www.analog.com; ComponentLink2Description: Datasheet; ComponentLink2URL: http://www.analog.com/static/imported-files/data_sheets/AD8310.pdf; ComponentLink3Description: Package Specification; ComponentLink3URL: http://www.analog.com/static/imported-files/packages/PKG_PDF/MSOP%28RM%29/RM_8.pdf
footprint ADI-RM-8_N (TSOP, 8-Leads, Body 3x3mm, Pitch 0.65mm, IPC Medium Density)
footprint ADI-RM-8_L (TSOP, 8-Leads, Body 3x3mm, Pitch 0.65mm, IPC High Density)
footprint ADI-RM-8_M (TSOP, 8-Leads, Body 3x3mm, Pitch 0.65mm, IPC Low Density)
pins: 1 INLO (in) "One of Two Balanced Inputs. Biased roughly to VPOS/2.", 2 COMM (power) "Common Pin. Usually grounded", 3 OFLT "Offset Filter Access. Nominally at about 1.75 V.", 4 VOUT (out) "Low Impedance Output Voltage. Carries a 25 mA maximum load.", 5 VPOS (power) "Positive Supply. 2.7 V to 5.5 V at 8 mA quiescent current.", 6 BFIN "Buffer Input. Used to lower postdetection bandwidth.", 7 ENBL (in) "CMOS Compatible Chip Enable. Active when high.", 8 INHI (in) "Second of Two Balanced Inputs. Biased roughly to VPOS/2."

## AD8310ARMZ-REEL7
designator U?
Fast, Voltage-Out, DC to 440 MHz, 95 dB Logarithmic Amplifier, 15ns Response Time, RM-8, Pb-Free, 1000 Reel; Product Description: High Dynamic Range; Dynamic Range (dB): 100dB; Temp Stability (dB): 1dB; Voltage Supply (V): 2.7 to 5.5; Supply Current: 8mA; DatasheetVersion: Rev. F; PackageVersion: Aug-2005; PackageReference: RM-8; PackageDescription: 8-Lead Mini Small Outline Package [MSOP]; RF Frequency (MHz): dc to 440; Response Time (ns typ): 15ns; Code_JEDEC: MO-187-AA; ComponentLink1Description: Manufacturer URL; ComponentLink1URL: www.analog.com; ComponentLink2Description: Datasheet; ComponentLink2URL: http://www.analog.com/static/imported-files/data_sheets/AD8310.pdf; ComponentLink3Description: Package Specification; ComponentLink3URL: http://www.analog.com/static/imported-files/packages/PKG_PDF/MSOP%28RM%29/RM_8.pdf
footprint ADI-RM-8_N (TSOP, 8-Leads, Body 3x3mm, Pitch 0.65mm, IPC Medium Density)
footprint ADI-RM-8_L (TSOP, 8-Leads, Body 3x3mm, Pitch 0.65mm, IPC High Density)
footprint ADI-RM-8_M (TSOP, 8-Leads, Body 3x3mm, Pitch 0.65mm, IPC Low Density)
pins: 1 INLO (in) "One of Two Balanced Inputs. Biased roughly to VPOS/2.", 2 COMM (power) "Common Pin. Usually grounded", 3 OFLT "Offset Filter Access. Nominally at about 1.75 V.", 4 VOUT (out) "Low Impedance Output Voltage. Carries a 25 mA maximum load.", 5 VPOS (power) "Positive Supply. 2.7 V to 5.5 V at 8 mA quiescent current.", 6 BFIN "Buffer Input. Used to lower postdetection bandwidth.", 7 ENBL (in) "CMOS Compatible Chip Enable. Active when high.", 8 INHI (in) "Second of Two Balanced Inputs. Biased roughly to VPOS/2."

## AD8311ACBZ-P2
designator U?
50 dB GSM PA Controller, 150ns Response Time, CB-6-2, Pb-Free, 250 Reel; Product Description: Pin-compatible with AD8317; RF Frequency (MHz): 100 to 2500; Dynamic Range (dB): 50dB; Temp Stability (dB): 500mdB; Voltage Supply (V): 2.7 to 5.5; Supply Current: 8.5mA; DatasheetVersion: Rev. A; PackageVersion: 081607-B; PackageReference: CB-6-2; PackageDescription: 6-Ball Wafer Level Chip Scale Package [WLCSP]; Response Time (ns typ): 150ns; ComponentLink1Description: Manufacturer URL; ComponentLink1URL: www.analog.com; ComponentLink2Description: Datasheet; ComponentLink2URL: http://www.analog.com/static/imported-files/data_sheets/AD8311.pdf; ComponentLink3Description: Package Specification; ComponentLink3URL: http://www.analog.com/static/imported-files/packages/PKG_PDF/WLCSP(CB)/CB_6_2.pdf
footprint ADI-CB-6-2 (BGA, 6-Leads, Body 1.5x1mm, Pitch 0.5mm)
pins: A1 VPOS (power) "Positive Supply Voltage: 2.7 V to 5.5 V.", A2 RFIN (in) "RF Input.", B1 VAPC (out) "Output. Control voltage for gain control element.", B2 COMM (power) "Device Common (Ground).", C1 VSET (in) "Setpoint Input. Nominal input range 0.25 V to 1.4 V.", C2 FLTR "Integrator Capacitor. Connect between FLTR and COMM."

## AD8311ACBZ-P7
designator U?
50 dB GSM PA Controller, 150ns Response Time, CB-6-2, Pb-Free, 3000 Reel; Product Description: Pin-compatible with AD8317; RF Frequency (MHz): 100 to 2500; Dynamic Range (dB): 50dB; Temp Stability (dB): 500mdB; Voltage Supply (V): 2.7 to 5.5; Supply Current: 8.5mA; DatasheetVersion: Rev. A; PackageVersion: 081607-B; PackageReference: CB-6-2; PackageDescription: 6-Ball Wafer Level Chip Scale Package [WLCSP]; Response Time (ns typ): 150ns; ComponentLink1Description: Manufacturer URL; ComponentLink1URL: www.analog.com; ComponentLink2Description: Datasheet; ComponentLink2URL: http://www.analog.com/static/imported-files/data_sheets/AD8311.pdf; ComponentLink3Description: Package Specification; ComponentLink3URL: http://www.analog.com/static/imported-files/packages/PKG_PDF/WLCSP(CB)/CB_6_2.pdf
footprint ADI-CB-6-2 (BGA, 6-Leads, Body 1.5x1mm, Pitch 0.5mm)
pins: A1 VPOS (power) "Positive Supply Voltage: 2.7 V to 5.5 V.", A2 RFIN (in) "RF Input.", B1 VAPC (out) "Output. Control voltage for gain control element.", B2 COMM (power) "Device Common (Ground).", C1 VSET (in) "Setpoint Input. Nominal input range 0.25 V to 1.4 V.", C2 FLTR "Integrator Capacitor. Connect between FLTR and COMM."

## AD8312ACBZ-P2
designator U?
50 MHz to 3.5 GHz, 45 dB RF Detector, 70ns Response Time, CB-6-2, Pb-Free, 250 Reel; Product Description: Pin-compatible with AD8317; RF Frequency (MHz): 50 to 3500; Dynamic Range (dB): 45dB; Temp Stability (dB): 500mdB; Voltage Supply (V): 2.7 to 5.5; Supply Current: 4.2mA; DatasheetVersion: Rev. A; PackageVersion: 081607-B; PackageReference: CB-6-2; PackageDescription: 6-Ball Wafer Level Chip Scale Package [WLCSP]; Response Time (ns typ): 70ns; ComponentLink1Description: Manufacturer URL; ComponentLink1URL: www.analog.com; ComponentLink2Description: Datasheet; ComponentLink2URL: http://www.analog.com/static/imported-files/data_sheets/AD8312.pdf; ComponentLink3Description: Package Specification; ComponentLink3URL: http://www.analog.com/static/imported-files/packages/PKG_PDF/WLCSP(CB)/CB_6_2.pdf
footprint ADI-CB-6-2 (BGA, 6-Leads, Body 1.5x1mm, Pitch 0.5mm)
pins: A1 VPOS (power) "Positive Supply Voltage: 2.7 V to 5.5 V.", A2 RFIN (in) "RF Input.", B1 VAPC (out) "Output. Control voltage for gain control element.", B2 COMM (power) "Device Common (Ground).", C1 VSET (in) "Setpoint Input. Nominal input range 0.25 V to 1.4 V.", C2 FLTR "Integrator Capacitor. Connect between FLTR and COMM."

## AD8312ACBZ-P7
designator U?
50 MHz to 3.5 GHz, 45 dB RF Detector, 70ns Response Time, CB-6-2, Pb-Free, 3000 Reel; Product Description: Pin-compatible with AD8317; RF Frequency (MHz): 50 to 3500; Dynamic Range (dB): 45dB; Temp Stability (dB): 500mdB; Voltage Supply (V): 2.7 to 5.5; Supply Current: 4.2mA; DatasheetVersion: Rev. A; PackageVersion: 081607-B; PackageReference: CB-6-2; PackageDescription: 6-Ball Wafer Level Chip Scale Package [WLCSP]; Response Time (ns typ): 70ns; ComponentLink1Description: Manufacturer URL; ComponentLink1URL: www.analog.com; ComponentLink2Description: Datasheet; ComponentLink2URL: http://www.analog.com/static/imported-files/data_sheets/AD8312.pdf; ComponentLink3Description: Package Specification; ComponentLink3URL: http://www.analog.com/static/imported-files/packages/PKG_PDF/WLCSP(CB)/CB_6_2.pdf
footprint ADI-CB-6-2 (BGA, 6-Leads, Body 1.5x1mm, Pitch 0.5mm)
pins: A1 VPOS (power) "Positive Supply Voltage: 2.7 V to 5.5 V.", A2 RFIN (in) "RF Input.", B1 VAPC (out) "Output. Control voltage for gain control element.", B2 COMM (power) "Device Common (Ground).", C1 VSET (in) "Setpoint Input. Nominal input range 0.25 V to 1.4 V.", C2 FLTR "Integrator Capacitor. Connect between FLTR and COMM."

## AD8313ARM
designator U?
0.1 GHz to 2.5 GHz 70 dB Logarithmic Detector/Controller, 40ns Response Time, RM-8, 50 Tube; Product Description: Industry Standard; RF Frequency (MHz): 100 to 2500; Dynamic Range (dB): 70dB; Temp Stability (dB): 1.25dB; Voltage Supply (V): 2.7 to 5.5; Supply Current: 14mA; DatasheetVersion: Rev. D; PackageVersion: Aug-2005; PackageReference: RM-8; PackageDescription: 8-Lead Mini Small Outline Package [MSOP]; Response Time (ns typ): 40ns; Code_JEDEC: MO-187-AA; ComponentLink1Description: Manufacturer URL; ComponentLink1URL: www.analog.com; ComponentLink2Description: Datasheet; ComponentLink2URL: http://www.analog.com/static/imported-files/data_sheets/AD8313.pdf; ComponentLink3Description: Package Specification; ComponentLink3URL: http://www.analog.com/static/imported-files/packages/PKG_PDF/MSOP%28RM%29/RM_8.pdf
footprint ADI-RM-8_N (TSOP, 8-Leads, Body 3x3mm, Pitch 0.65mm, IPC Medium Density)
footprint ADI-RM-8_L (TSOP, 8-Leads, Body 3x3mm, Pitch 0.65mm, IPC High Density)
footprint ADI-RM-8_M (TSOP, 8-Leads, Body 3x3mm, Pitch 0.65mm, IPC Low Density)
pins: 1 VPOS (power) "Positive Supply Voltage (VPOS), 2.7 V to 5.5 V.", 2 INHI (in) "Noninverting Input. This input should be ac-coupled.", 3 INLO (in) "Inverting Input. This input should be ac-coupled.", 4 VPOS (power) "Positive Supply Voltage (VPOS), 2.7 V to 5.5 V.", 5 PWDN (in) "Connect Pin to Ground for Normal Operating Mode. Connect this pin to the supply for power-down mode.", 6 COMM (power) "Device Common", 7 VSET (in) "Setpoint Input for Operation in Controller Mode. To operate in RSSI mode, short VSET and VOUT.", 8 VOUT   (out) "Logarithmic/Error Output."

## AD8313ARM-REEL
designator U?
0.1 GHz to 2.5 GHz 70 dB Logarithmic Detector/Controller, 40ns Response Time, RM-8, 3000 Reel; Product Description: Industry Standard; RF Frequency (MHz): 100 to 2500; Dynamic Range (dB): 70dB; Temp Stability (dB): 1.25dB; Voltage Supply (V): 2.7 to 5.5; Supply Current: 14mA; DatasheetVersion: Rev. D; PackageVersion: Aug-2005; PackageReference: RM-8; PackageDescription: 8-Lead Mini Small Outline Package [MSOP]; Response Time (ns typ): 40ns; Code_JEDEC: MO-187-AA; ComponentLink1Description: Manufacturer URL; ComponentLink1URL: www.analog.com; ComponentLink2Description: Datasheet; ComponentLink2URL: http://www.analog.com/static/imported-files/data_sheets/AD8313.pdf; ComponentLink3Description: Package Specification; ComponentLink3URL: http://www.analog.com/static/imported-files/packages/PKG_PDF/MSOP%28RM%29/RM_8.pdf
footprint ADI-RM-8_N (TSOP, 8-Leads, Body 3x3mm, Pitch 0.65mm, IPC Medium Density)
footprint ADI-RM-8_L (TSOP, 8-Leads, Body 3x3mm, Pitch 0.65mm, IPC High Density)
footprint ADI-RM-8_M (TSOP, 8-Leads, Body 3x3mm, Pitch 0.65mm, IPC Low Density)
pins: 1 VPOS (power) "Positive Supply Voltage (VPOS), 2.7 V to 5.5 V.", 2 INHI (in) "Noninverting Input. This input should be ac-coupled.", 3 INLO (in) "Inverting Input. This input should be ac-coupled.", 4 VPOS (power) "Positive Supply Voltage (VPOS), 2.7 V to 5.5 V.", 5 PWDN (in) "Connect Pin to Ground for Normal Operating Mode. Connect this pin to the supply for power-down mode.", 6 COMM (power) "Device Common", 7 VSET (in) "Setpoint Input for Operation in Controller Mode. To operate in RSSI mode, short VSET and VOUT.", 8 VOUT   (out) "Logarithmic/Error Output."

## AD8313ARM-REEL7
designator U?
0.1 GHz to 2.5 GHz 70 dB Logarithmic Detector/Controller, 40ns Response Time, RM-8, 1000 Reel; Product Description: Industry Standard; RF Frequency (MHz): 100 to 2500; Dynamic Range (dB): 70dB; Temp Stability (dB): 1.25dB; Voltage Supply (V): 2.7 to 5.5; Supply Current: 14mA; DatasheetVersion: Rev. D; PackageVersion: Aug-2005; PackageReference: RM-8; PackageDescription: 8-Lead Mini Small Outline Package [MSOP]; Response Time (ns typ): 40ns; Code_JEDEC: MO-187-AA; ComponentLink1Description: Manufacturer URL; ComponentLink1URL: www.analog.com; ComponentLink2Description: Datasheet; ComponentLink2URL: http://www.analog.com/static/imported-files/data_sheets/AD8313.pdf; ComponentLink3Description: Package Specification; ComponentLink3URL: http://www.analog.com/static/imported-files/packages/PKG_PDF/MSOP%28RM%29/RM_8.pdf
footprint ADI-RM-8_N (TSOP, 8-Leads, Body 3x3mm, Pitch 0.65mm, IPC Medium Density)
footprint ADI-RM-8_L (TSOP, 8-Leads, Body 3x3mm, Pitch 0.65mm, IPC High Density)
footprint ADI-RM-8_M (TSOP, 8-Leads, Body 3x3mm, Pitch 0.65mm, IPC Low Density)
pins: 1 VPOS (power) "Positive Supply Voltage (VPOS), 2.7 V to 5.5 V.", 2 INHI (in) "Noninverting Input. This input should be ac-coupled.", 3 INLO (in) "Inverting Input. This input should be ac-coupled.", 4 VPOS (power) "Positive Supply Voltage (VPOS), 2.7 V to 5.5 V.", 5 PWDN (in) "Connect Pin to Ground for Normal Operating Mode. Connect this pin to the supply for power-down mode.", 6 COMM (power) "Device Common", 7 VSET (in) "Setpoint Input for Operation in Controller Mode. To operate in RSSI mode, short VSET and VOUT.", 8 VOUT   (out) "Logarithmic/Error Output."

## AD8313ARMZ
designator U?
0.1 GHz to 2.5 GHz 70 dB Logarithmic Detector/Controller, 40ns Response Time, RM-8, Pb-Free, 50 Tube; Product Description: Industry Standard; RF Frequency (MHz): 100 to 2500; Dynamic Range (dB): 70dB; Temp Stability (dB): 1.25dB; Voltage Supply (V): 2.7 to 5.5; Supply Current: 14mA; DatasheetVersion: Rev. D; PackageVersion: Aug-2005; PackageReference: RM-8; PackageDescription: 8-Lead Mini Small Outline Package [MSOP]; Response Time (ns typ): 40ns; Code_JEDEC: MO-187-AA; ComponentLink1Description: Manufacturer URL; ComponentLink1URL: www.analog.com; ComponentLink2Description: Datasheet; ComponentLink2URL: http://www.analog.com/static/imported-files/data_sheets/AD8313.pdf; ComponentLink3Description: Package Specification; ComponentLink3URL: http://www.analog.com/static/imported-files/packages/PKG_PDF/MSOP%28RM%29/RM_8.pdf
footprint ADI-RM-8_N (TSOP, 8-Leads, Body 3x3mm, Pitch 0.65mm, IPC Medium Density)
footprint ADI-RM-8_L (TSOP, 8-Leads, Body 3x3mm, Pitch 0.65mm, IPC High Density)
footprint ADI-RM-8_M (TSOP, 8-Leads, Body 3x3mm, Pitch 0.65mm, IPC Low Density)
pins: 1 VPOS (power) "Positive Supply Voltage (VPOS), 2.7 V to 5.5 V.", 2 INHI (in) "Noninverting Input. This input should be ac-coupled.", 3 INLO (in) "Inverting Input. This input should be ac-coupled.", 4 VPOS (power) "Positive Supply Voltage (VPOS), 2.7 V to 5.5 V.", 5 PWDN (in) "Connect Pin to Ground for Normal Operating Mode. Connect this pin to the supply for power-down mode.", 6 COMM (power) "Device Common", 7 VSET (in) "Setpoint Input for Operation in Controller Mode. To operate in RSSI mode, short VSET and VOUT.", 8 VOUT   (out) "Logarithmic/Error Output."